# EAGLE library part TINY25 (library bt_avr)
Atmel AVR ATiny25,45,85 8-bit Microcontroller.
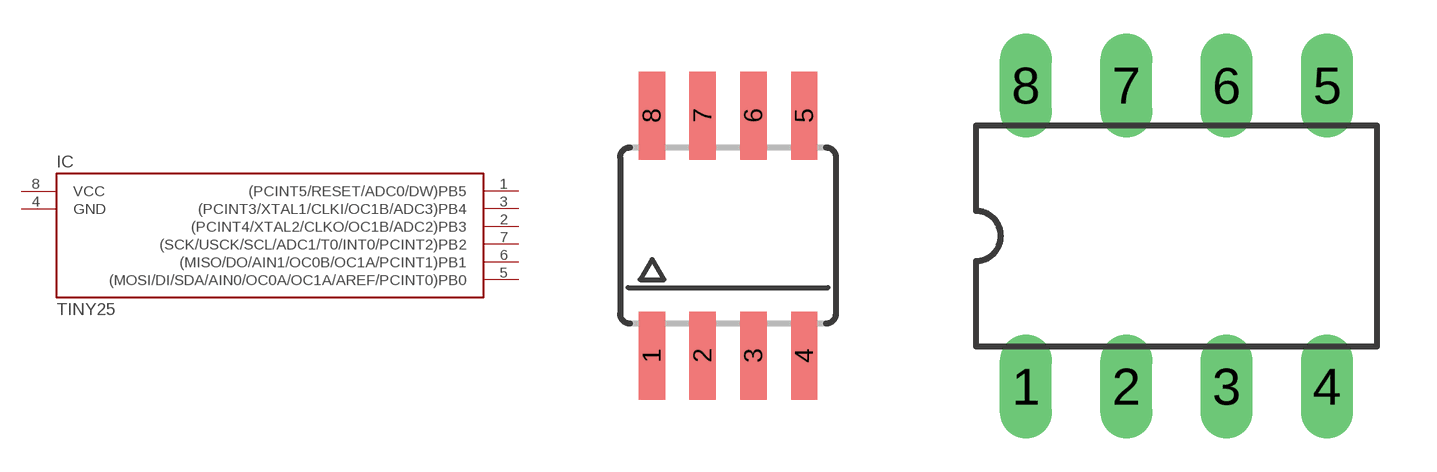
[diagram p2: symbol with the pads of SOIC8N; footprints SOIC8N, DIL08]

Designator prefix IC

## TINY25-20SSU  [SOIC8N]
1  (PCINT5/RESET/ADC0/DW)PB5
2  (PCINT4/XTAL2/CLKO/OC1B/ADC2)PB3
3  (PCINT3/XTAL1/CLKI/OC1B/ADC3)PB4
4  GND  pwr
5  (MOSI/DI/SDA/AIN0/OC0A/OC1A/AREF/PCINT0)PB0
6  (MISO/DO/AIN1/OC0B/OC1A/PCINT1)PB1
7  (SCK/USCK/SCL/ADC1/T0/INT0/PCINT2)PB2
8  VCC  pwr

## TINY25-20PU  [DIL08]
Pads as for SOIC8N

## TINY25-20MU  [20MLF_0.5]
1  (PCINT5/RESET/ADC0/DW)PB5
2  (PCINT4/XTAL2/CLKO/OC1B/ADC2)PB3
5  (PCINT3/XTAL1/CLKI/OC1B/ADC3)PB4
8  GND  pwr
11  (MOSI/DI/SDA/AIN0/OC0A/OC1A/AREF/PCINT0)PB0
12  (MISO/DO/AIN1/OC0B/OC1A/PCINT1)PB1
14  (SCK/USCK/SCL/ADC1/T0/INT0/PCINT2)PB2
15  VCC  pwr

## TINY25-SUR  [SOIC8W]
Pads as for SOIC8N

## Footprint SOIC8N (pad centres in mm)
Wide Plastic Gull Wing Small Outline Package
smd 0.66 x 2.2: 1 -1.905,-3; 2 -0.635,-3; 3 0.635,-3; 4 1.905,-3; 5 1.905,3; 6 0.635,3; 7 -0.635,3; 8 -1.905,3

## Footprint DIL08 (pad centres in mm)
Dual In Line
drill 0.813 long: 1 -3.81,-3.81; 2 -1.27,-3.81; 3 1.27,-3.81; 4 3.81,-3.81; 5 3.81,3.81; 6 1.27,3.81; 7 -1.27,3.81; 8 -3.81,3.81

## Footprint 20MLF_0.5 (pad centres in mm)
smd 1 x 0.25: 1 0,3; 2 0,2.5; 3 0,2; 4 0,1.5; 5 0,1; 11 4,1; 12 4,1.5; 13 4,2; 14 4,2.5; 15 4,3
smd 0.25 x 1: 6 1,0; 7 1.5,0; 8 2,0; 9 2.5,0; 10 3,0; 16 3,4; 17 2.5,4; 18 2,4; 19 1.5,4; 20 1,4
smd 2.6 x 2.6: PAD 2.02,1.99

## Footprint SOIC8W (pad centres in mm)
smd 0.6 x 2.2: 1 -1.905,-3.65; 2 -0.635,-3.65; 3 0.635,-3.65; 4 1.905,-3.65; 5 1.9,3.65; 6 0.6,3.65; 7 -0.635,3.65; 8 -1.905,3.65